# Altium footprint library 接口.PCBLIB: 266 footprints (part 13 of 17)
Each footprint in its own frame and in the unit in brackets; x right, y up, seen from the top. Pads: shape width x height; smd on the part's side, far side on the other; paste and mask are expansions set on the pad; w line width, h text height; cw(c..) or ccw(c..) is an arc to the next point about the centre after c.
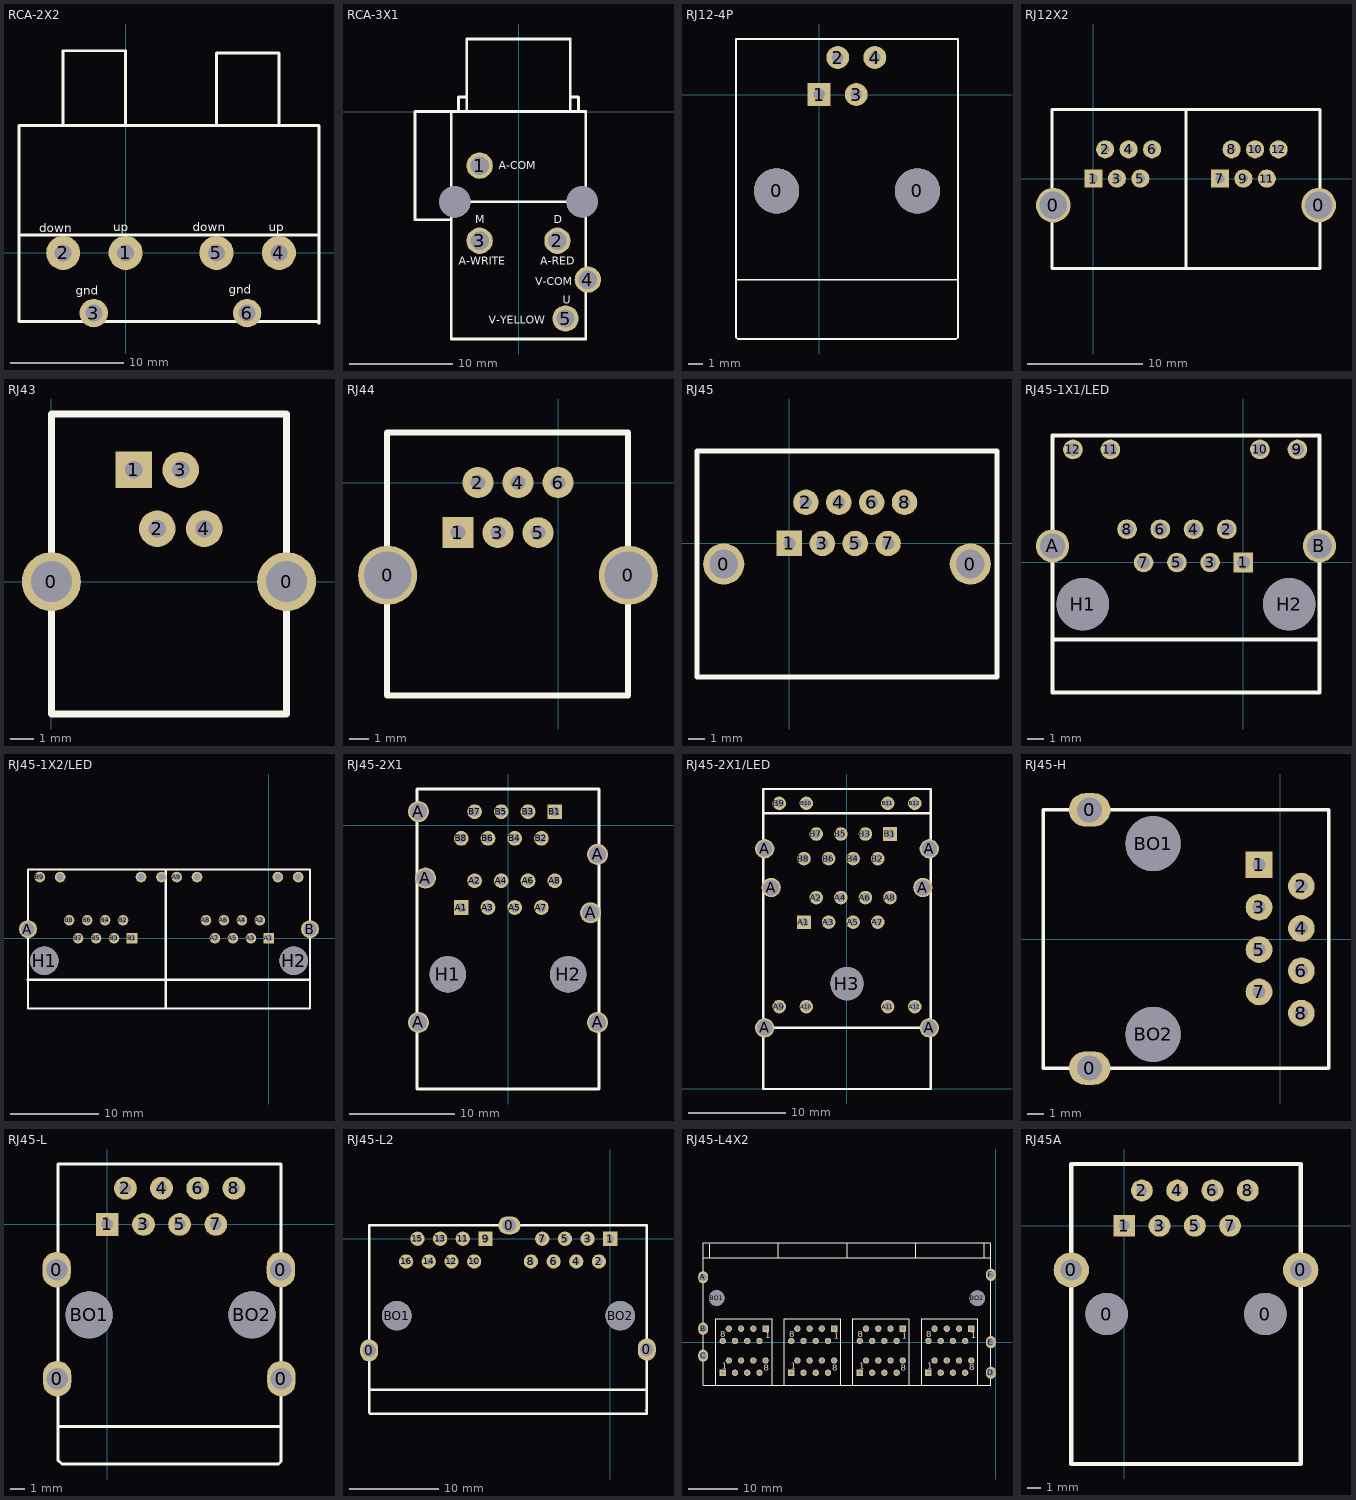
[diagram p12: the footprints below, top view; thin cyan lines are the x and y axes]

## RCA-2X2 [mm]
pads (6):
  round 3 hole 1.5: 1(0,0) 2(-5.5,0) 4(13.5,0) 5(8,0)
  round 2.5 hole 1.5: 3(-2.8,-5.3) 6(10.7,-5.3)
TopOverlay:
  lines w0.254: -9.388,1.586 17.028,1.586 ; -5.5,11.238 -5.5,17.8 0,17.8 0,11.238 ; 8,11.238 8,17.6 13.5,17.6 13.5,11.238 ; -9.388,-6.034 16.862,-6.034 17.028,-6.2 17.028,11.2 -9.388,11.2 -9.388,-6.034
  text "down" at -7.6,1.8 h0.76
  text "up" at -1.1,1.9 h0.76
  text "gnd" at -4.4,-3.7 h0.76
  text "down" at 5.9,1.9 h0.76
  text "up" at 12.6,1.9 h0.76
  text "gnd" at 9.1,-3.6 h0.76

## RCA-3X1 [mil]
pads (7):
  round 100 hole 70: 1(-148,-206) 2(148,-492) 3(-148,-492) 4(264,-640) 5(179,-788)
  round 118.11 hole 120: ""(-242,-344) ""(242,-344)
TopOverlay:
  lines w10: -257.59,-412.41 -394,-412.41 -394,0 -256,0 ; -242.13,-344 198.82,-344 ; -228.5,3.94 -228.5,55.12 -197,55.12 ; -197,0 -197,276 197,276 197,3.94 ; 197,55.12 228.5,55.12 228.5,3.94 ; -256,0 256,0 256,-866 -256,-866 -256,0
  text "U" at 169.29,-732.28 h30
  text "M" at -165.35,-425.2 h30
  text "D" at 133.86,-425.2 h30
  text "A-RED" at 82.68,-582.68 h30
  text "A-WRITE" at -228.35,-582.68 h30
  text "V-COM" at 62.99,-661.42 h30
  text "A-COM" at -74.8,-220.47 h30
  text "V-YELLOW" at -114.17,-807.09 h30

## RJ12-4P [mil]
pads (6):
  round 122.05 hole 122.05: 0(-115,-260) 0(265,-260)
  rect 62x62 hole 32: 1(0,0)
  round 62 hole 32: 2(50,100) 3(100,0) 4(150,100)
TopOverlay:
  lines w5: -225,-500 -225,-655 -220,-660 40,-660 370,-660 375,-655 375,-500 ; -225,-500 -225,150 375,150 375,-500 ; -225,-500 375,-500

## RJ12X2 [mil]
pads (14):
  round 118.11 hole 94.49: 0(-137.01,-90.55) 0(768.5,-90.55)
  rect 62x62 hole 30: 1(0,0) 7(431.5,0)
  round 62 hole 30: 2(40,100) 3(80,0) 4(120,100) 5(160,0) 6(200,100) 8(471.5,100) 9(511.5,0) 10(551.5,100) 11(591.5,0) 12(631.5,100)
TopOverlay:
  lines w10: 315.75,-307.09 315.75,236.22 ; -141.34,-307.09 -141.34,236.22 772.83,236.22 772.83,-307.09 -141.34,-307.09

## RJ43 [mil]
pads (6):
  round 100 hole 70: 0(0,0) 0(400,0)
  rect 62x62 hole 30: 1(140,190)
  round 62 hole 30: 2(180,90) 3(220,190) 4(260,90)
TopOverlay:
  lines w12: 0,-225 400,-225 400,285 0,285 0,-225

## RJ44 [mil]
pads (8):
  round 118.11 hole 94.49: 0(-340.16,-185) 0(140.16,-185)
  rect 62x62 hole 30: 1(-200,-100)
  round 62 hole 30: 2(-160,0) 3(-120,-100) 4(-80,0) 5(-40,-100) 6(0,0)
TopOverlay:
  lines w12: -341.26,-425 -341.26,100 139.69,100 139.69,-425 -341.26,-425

## RJ45 [mil]
pads (10):
  round 100 hole 70: 0(-160,-50) 0(440,-50)
  rect 62x62 hole 30: 1(0,0)
  round 62 hole 30: 2(40,100) 3(80,0) 4(120,100) 5(160,0) 6(200,100) 7(240,0) 8(280,100)
TopOverlay:
  lines w12: -225,-325 505,-325 505,225 -225,225 -225,-325

## RJ45-1X1/LED [mm]
pads (16):
  rect 1.2x1.2 hole 0.8: 1(0,0)
  round 1.2 hole 0.8: 2(-1.016,2.032) 3(-2.032,0) 4(-3.048,2.032) 5(-4.064,0) 6(-5.08,2.032) 7(-6.096,0) 8(-7.112,2.032) 9(3.304,6.908) 10(1.014,6.908) 11(-8.126,6.908) 12(-10.416,6.908)
  round 2.032 hole 1.524: A(-11.659,1.018) B(4.644,1.018)
  round 3.2 hole 3.2: H1(-9.809,-2.542) H2(2.794,-2.542)
TopOverlay:
  lines w0.254: -11.659,-4.699 4.644,-4.699 ; -11.659,-7.942 4.644,-7.942 4.644,7.758 -11.659,7.758 -11.659,-7.942

## RJ45-1X2/LED [mm]
pads (28):
  round 2.032 hole 1.524: A(-27.225,1.018) B(4.644,1.018)
  rect 1.2x1.2 hole 0.8: A1(0,0) B1(-15.469,0)
  round 1.2 hole 0.8: A2(-1.016,2.032) A3(-2.032,0) A4(-3.048,2.032) A5(-4.064,0) A6(-5.08,2.032) A7(-6.096,0) A8(-7.112,2.032) A9(-10.416,6.908) A10(-8.126,6.908) A11(1.014,6.908) A12(3.304,6.908) B2(-16.485,2.032) B3(-17.501,0) B4(-18.517,2.032) B5(-19.533,0) B6(-20.549,2.032) B7(-21.565,0) B8(-22.581,2.032) B9(-25.885,6.908) B10(-23.595,6.908) B11(-14.455,6.908) B12(-12.141,6.908)
  round 3.2 hole 3.2: H1(-25.375,-2.542) H2(2.794,-2.542)
TopOverlay:
  lines w0.254: -27.254,-4.699 -10.922,-4.699 ; -11.659,-7.942 -11.659,7.758 ; -11.659,-4.699 4.644,-4.699 ; -27.225,-7.942 -27.225,7.758 4.644,7.758 4.644,-7.942 -27.225,-7.942

## RJ45-2X1 [mm]
pads (24):
  round 2 hole 1.6: A(-8.505,-18.76) A(-8.505,1.27) A(-7.84,-5.04) A(7.84,-8.34) A(8.505,-18.76) A(8.505,-2.79)
  rect 1.4x1.4 hole 0.9: A1(-4.445,-7.84) B1(4.445,1.27)
  round 1.4 hole 0.9: A2(-3.175,-5.3) A3(-1.905,-7.84) A4(-0.635,-5.3) A5(0.635,-7.84) A6(1.905,-5.3) A7(3.175,-7.84) A8(4.445,-5.3) B2(3.175,-1.27) B3(1.905,1.27) B4(0.635,-1.27) B5(-0.635,1.27) B6(-1.905,-1.27) B7(-3.175,1.27) B8(-4.445,-1.27)
  round 3.454 hole 3.454: H1(-5.715,-14.19) H2(5.715,-14.19)
TopOverlay:
  lines w0.254: -8.64,-25.08 8.64,-25.08 8.64,3.42 -8.64,3.42 -8.64,-25.08

## RJ45-2X1/LED [mm]
pads (31):
  round 2 hole 1.6: A(-8.5,6.32) A(-8.5,24.82) A(-7.835,20.82) A(7.845,20.82) A(8.51,24.82) A(8.51,6.32)
  rect 1.4x1.4 hole 0.9: A1(-4.44,17.24) B1(4.45,26.35)
  round 1.4 hole 0.9: A2(-3.17,19.78) A3(-1.9,17.24) A4(-0.63,19.78) A5(0.64,17.24) A6(1.91,19.78) A7(3.18,17.24) A8(4.45,19.78) A9(-7,8.52) A10(-4.2,8.52) A11(4.21,8.52) A12(7.01,8.52) B2(3.18,23.81) B3(1.91,26.35) B4(0.64,23.81) B5(-0.63,26.35) B6(-1.9,23.81) B7(-3.17,26.35) B8(-4.44,23.81) B9(-7,29.52) B10(-4.2,29.52) B11(4.21,29.52) B12(7.01,29.52)
  round 3.454 hole 3.454: H3(0.005,10.89)
TopOverlay:
  lines w0.254: -8.635,28.5 8.645,28.5 ; -8.5,6.32 8.51,6.32 ; -8.635,0 -8.635,31 8.645,31 8.645,0 -8.635,0

## RJ45-H [mm]
pads (12):
  oval 2.5x2 hole 1.5: 0(-11.43,-7.747) 0(-11.43,7.747)
  rect 1.6x1.6 hole 0.8: 1(-1.27,4.445)
  round 1.6 hole 0.8: 2(1.27,3.175) 3(-1.27,1.905) 4(1.27,0.635) 5(-1.27,-0.635) 6(1.27,-1.905) 7(-1.27,-3.175) 8(1.27,-4.445)
  round 3.3 hole 3.3: BO1(-7.62,5.715) BO2(-7.62,-5.715)
TopOverlay:
  lines w0.203: -14.224,-7.747 -14.224,7.747 2.921,7.747 2.921,-7.747 -14.224,-7.747

## RJ45-L [mm]
pads (14):
  oval 2x2.5 hole 1.5: 0(-3.558,-3.175) 0(-3.523,-10.826) 0(12.19,-3.175) 0(12.225,-10.826)
  rect 1.6x1.6 hole 0.8: 1(0,0)
  round 1.6 hole 0.8: 2(1.27,2.54) 3(2.54,0) 4(3.81,2.54) 5(5.08,0) 6(6.35,2.54) 7(7.62,0) 8(8.89,2.54)
  round 3.3 hole 3.3: BO1(-1.27,-6.35) BO2(10.16,-6.35)
TopOverlay:
  lines w0.2: -3.45,-16.561 -3.45,-14.182 -2.871,-14.182 ; -3.189,-16.822 12.014,-16.815 12.192,-16.637 ; 12.19,-16.635 12.19,-14.131
  lines w0.203: -3.45,-16.561 -3.189,-16.822 ; -3.45,-14.182 -3.45,4.233 ; -3.429,4.233 12.192,4.242 ; -3.175,-14.182 12.065,-14.182 ; 12.19,-14.131 12.19,4.233

## RJ45-L2 [mm]
pads (21):
  oval 2x2.5 hole 1.5: 0(-27,-12.5) 0(4.1,-12.4)
  oval 2.5x2 hole 1.5: 0(-11.3,1.5)
  rect 1.6x1.6 hole 0.8: 1(0,0) 9(-13.97,0)
  round 1.6 hole 0.8: 2(-1.27,-2.54) 3(-2.54,0) 4(-3.81,-2.54) 5(-5.08,0) 6(-6.35,-2.54) 7(-7.62,0) 8(-8.89,-2.54) 10(-15.24,-2.54) 11(-16.51,0) 12(-17.78,-2.54) 13(-19.05,0) 14(-20.32,-2.54) 15(-21.59,0) 16(-22.86,-2.54)
  round 3.3 hole 3.3: BO1(-23.9,-8.6) BO2(1.1,-8.6)
TopOverlay:
  lines w0.254: -27,-16.9 4,-16.9 4.1,-16.8 ; 4,-19.2 4.1,-19.1 ; 4.1,-19.1 4.1,-19.6 -26.9,-19.6 -27,-19.5 -27,1.5 4.1,1.5 4.1,-19.1

## RJ45-L4X2 [mm]
pads (72):
  rect 1.3x1.3 hole 0.8: 1(-55.75,-6.25) 1(-47,2.75) 1(-41.75,-6.25) 1(-33,2.75) 1(-27.75,-6.25) 1(-19,2.75) 1(-13.75,-6.25) 1(-5,2.75)
  round 1.3 hole 0.8: 2(-54.5,-3.75) 2(-48.25,0.25) 2(-40.5,-3.75) 2(-34.25,0.25) 2(-26.5,-3.75) 2(-20.25,0.25) 2(-12.5,-3.75) 2(-6.25,0.25) 3(-53.25,-6.25) 3(-49.5,2.75) 3(-39.25,-6.25) 3(-35.5,2.75) 3(-25.25,-6.25) 3(-21.5,2.75) 3(-11.25,-6.25) 3(-7.5,2.75) 4(-52,-3.75) 4(-50.75,0.25) 4(-38,-3.75) 4(-36.75,0.25) 4(-24,-3.75) 4(-22.75,0.25) 4(-10,-3.75) 4(-8.75,0.25) 5(-52,2.75) 5(-50.75,-6.25) 5(-38,2.75) 5(-36.75,-6.25) 5(-24,2.75) 5(-22.75,-6.25) 5(-10,2.75) 5(-8.75,-6.25) 6(-53.25,0.25) 6(-49.5,-3.75) 6(-39.25,0.25) 6(-35.5,-3.75) 6(-25.25,0.25) 6(-21.5,-3.75) 6(-11.25,0.25) 6(-7.5,-3.75) 7(-54.5,2.75) 7(-48.25,-6.25) 7(-40.5,2.75) 7(-34.25,-6.25) 7(-26.5,2.75) 7(-20.25,-6.25) 7(-12.5,2.75) 7(-6.25,-6.25) 8(-55.75,0.25) 8(-47,-3.75) 8(-41.75,0.25) 8(-33,-3.75) 8(-27.75,0.25) 8(-19,-3.75) 8(-13.75,0.25) 8(-5,-3.75)
  oval 2x2.5 hole 1.5: A(-59.75,13.25) B(-59.75,2.75) C(-59.75,-2.75) D(-1,-6.25) E(-1,0) F(-1,13.75)
  round 3.2 hole 3.2: BO1(-57,9) BO2(-3.75,8.95)
TopOverlay:
  lines w0.254: -59.75,17.2 -1,17.2 -1,20.15 ; -58.35,17.2 -58.35,20 ; -57.15,-8.75 -57.15,4.8 -45.65,4.8 -45.65,-8.75 ; -44.5,17.15 -44.5,20.1 ; -43.15,-8.75 -43.15,4.8 -31.65,4.8 -31.65,-8.75 ; -30.35,17.2 -30.35,20.05 ; -29.15,-8.75 -29.15,4.8 -17.65,4.8 -17.65,-8.75 ; -16.3,17.2 -16.3,20.25 ; -2.35,17.35 -2.35,20.25 ; -15.15,4.8 -3.65,4.8 ; -15.15,4.8 -15.15,-8.75 -15.15,4.8 ; -15.15,4.8 -3.65,4.8 ; -3.65,4.8 -3.65,-8.75 -3.65,4.8 ; -59.75,-8.75 -59.75,20.25 -1,20.25 -1,-8.75 -59.75,-8.75
  text "1" at -47.1,0.8 h1.27
  text "8" at -5.4,-5.7 h1.27
  text "1" at -55.9,-5.4 h1.27
  text "8" at -42.2,1 h1.27
  text "1" at -14,-5.4 h1.27
  text "8" at -19.4,-5.8 h1.27
  text "8" at -56.3,1 h1.27
  text "1" at -5.1,0.8 h1.27
  text "8" at -14.2,1 h1.27
  text "1" at -19.2,0.7 h1.27
  text "8" at -28.2,1 h1.27
  text "1" at -27.9,-5.4 h1.27
  text "1" at -33.1,0.7 h1.27
  text "1" at -41.9,-5.4 h1.27
  text "8" at -33.4,-5.8 h1.27
  text "8" at -47.4,-5.8 h1.27

## RJ45A [mil]
pads (12):
  round 100 hole 60: 0(-150,-125) 0(500,-125)
  round 120 hole 120: 0(-50,-250) 0(400,-250)
  rect 62x62 hole 30: 1(0,0)
  round 62 hole 30: 2(50,100) 3(100,0) 4(150,100) 5(200,0) 6(250,100) 7(300,0) 8(350,100)
TopOverlay:
  lines w12: -150,-675 -150,175 500,175 500,-675 -150,-675